# Altium schematic symbol library CAP,Cer,2.2uF,25V,X5R,0805.Schlib: 1 symbol
Pins are listed as number, name and electrical type; pins without a type are passive.

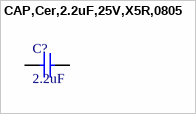
[diagram p0: symbol CAP,Cer,2.2uF,25V,X5R,0805]

## CAP,Cer,2.2uF,25V,X5R,0805
designator C?, comment 2.2uF
CAP CER 2.2UF 25V X5R 0805
pins: 1, 2